# EAGLE library part PLC_INTERFACE_FUSES (library EL_POTENCIA_LIBRERIA_VES2018)
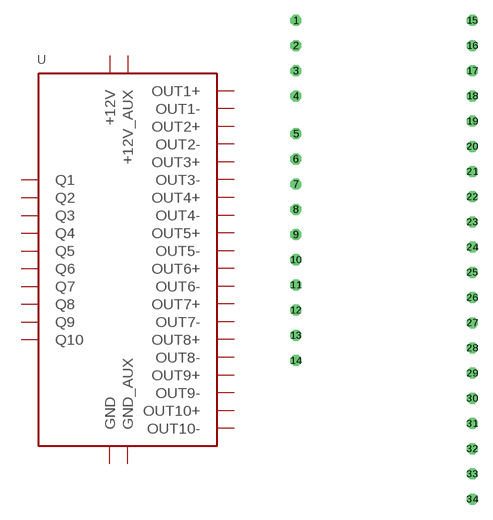
[diagram p11: symbol with the pads of PLC_INTERFACE_FUSES; footprint PLC_INTERFACE_FUSES]

Designator prefix -

## PLC_INTERFACE_FUSES  [PLC_INTERFACE_FUSES]
1  +12V
2  +12V_AUX
3  GND
4  GND_AUX
5  OUT1+
6  OUT1-
7  OUT2+
8  OUT2-
9  OUT3+
10  OUT3-
11  OUT4+
12  OUT4-
13  OUT5+
14  OUT5-
15  OUT6+
16  OUT6-
17  OUT7+
18  OUT7-
19  OUT8+
20  OUT8-
21  OUT9+
22  OUT9-
23  OUT10+
24  OUT10-
25  Q1
26  Q2
27  Q3
28  Q4
29  Q5
30  Q6
31  Q7
32  Q8
33  Q9
34  Q10

## Footprint PLC_INTERFACE_FUSES (pad centres in mm)
drill 0.6 octagon: 1 -10.16,3.81; 2 -10.16,1.27; 3 -10.16,-1.27; 4 -10.16,-3.81; 5 -10.16,-7.62; 6 -10.16,-10.16; 7 -10.16,-12.7; 8 -10.16,-15.24; 9 -10.16,-17.78; 10 -10.16,-20.32; 11 -10.16,-22.86; 12 -10.16,-25.4; 13 -10.16,-27.94; 14 -10.16,-30.48; 15 7.62,3.81; 16 7.62,1.27; 17 7.62,-1.27; 18 7.62,-3.81; 19 7.62,-6.35; 20 7.62,-8.89; 21 7.62,-11.43; 22 7.62,-13.97; 23 7.62,-16.51; 24 7.62,-19.05; 25 7.62,-21.59; 26 7.62,-24.13; 27 7.62,-26.67; 28 7.62,-29.21; 29 7.62,-31.75; 30 7.62,-34.29; 31 7.62,-36.83; 32 7.62,-39.37; 33 7.62,-41.91; 34 7.62,-44.45